# EAGLE library part TS3A27518E (library sjg-logic)
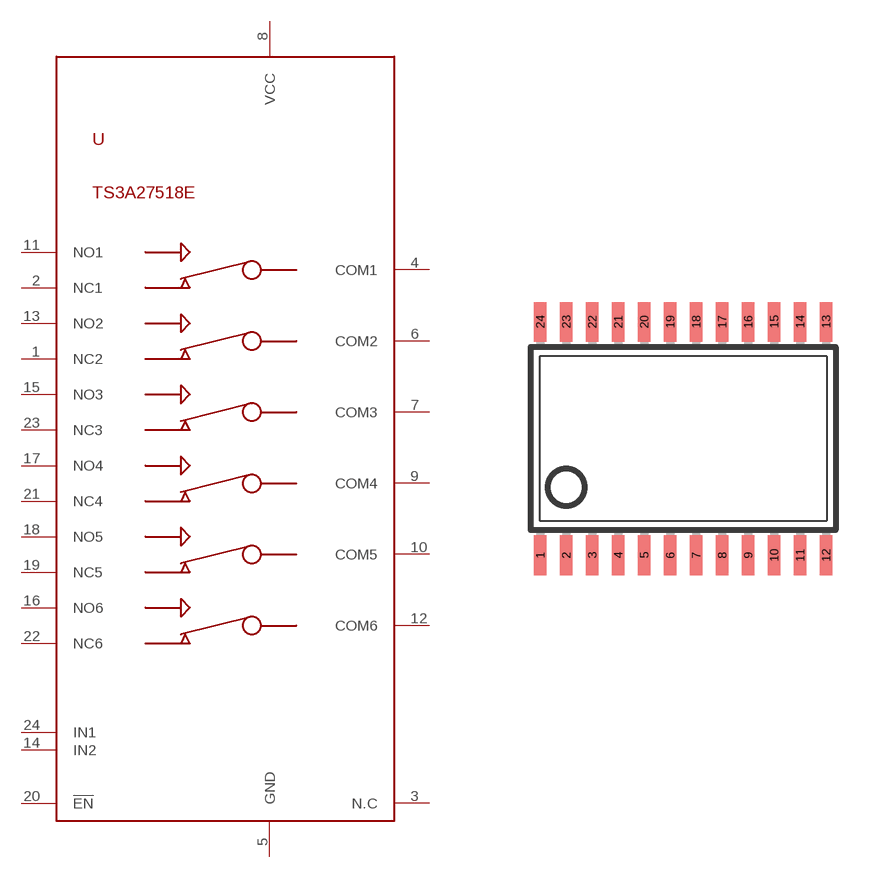
[diagram p6: symbol with the pads of TSSOP24; footprint TSSOP24]

Designator prefix -

## TS3A27518E  [TSSOP24]
1  NC2
2  NC1
3  N.C
4  COM1
5  GND
6  COM2
7  COM3
8  VCC
9  COM4
10  COM5
11  NO1
12  COM6
13  NO2
14  IN2
15  NO3
16  NO6
17  NO4
18  NO5
19  NC5
20  !EN!
21  NC4
22  NC6
23  NC3
24  IN1

## Footprint TSSOP24 (pad centres in mm)
Thin Shrink Small Outline Plastic 24 MAX3223-MAX3243.pdf
smd 0.305 x 0.991: 1 -3.575,-2.918; 2 -2.925,-2.918; 3 -2.275,-2.918; 4 -1.625,-2.918; 5 -0.975,-2.918; 6 -0.325,-2.918; 7 0.325,-2.918; 8 0.975,-2.918; 9 1.625,-2.918; 10 2.275,-2.918; 11 2.925,-2.918; 12 3.575,-2.918; 13 3.575,2.918; 14 2.925,2.918; 15 2.275,2.918; 16 1.625,2.918; 17 0.975,2.918; 18 0.325,2.918; 19 -0.325,2.918; 20 -0.975,2.918; 21 -1.625,2.918; 22 -2.275,2.918; 23 -2.925,2.918; 24 -3.575,2.918